# Altium integrated library wulpus_pro_shield.IntLib: 69 symbols (part 1 of 2)
Pins are listed as number, name and electrical type; pins without a type are passive.

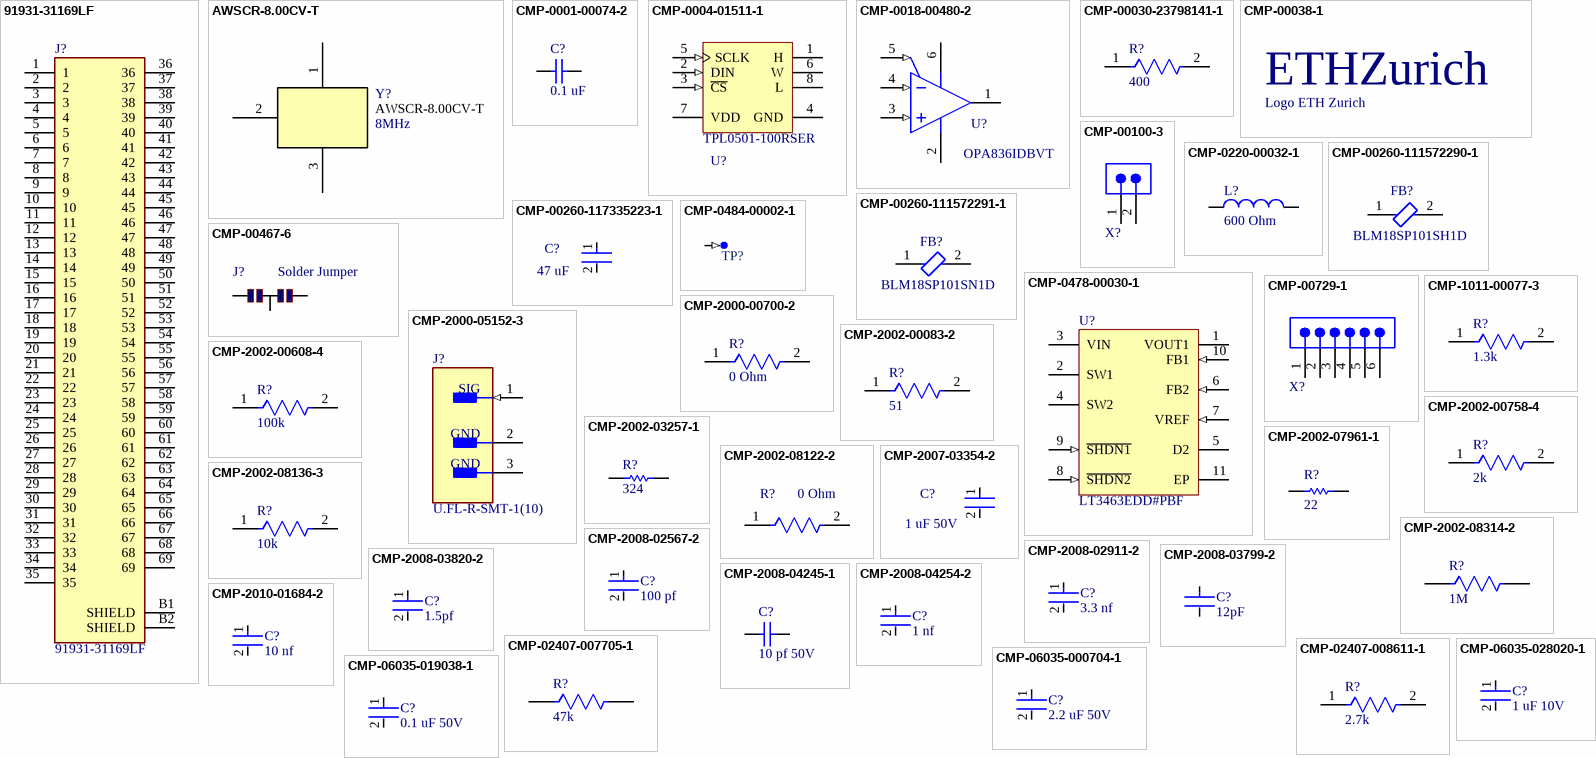
[diagram p0: symbols 91931-31169LF to CMP-06035-028020-1]

## 91931-31169LF
designator J?
Conn; Rect; Industrial; MezzanineRECP; 69Cnts; SMT; I-IndustrialSeries; Package: None; Price: None; Value: *; MP: 91931-31169LF; Availability: Unavailable
footprint FRAMETOME_91931-31169LF
pins: 1, 2, 3, 4, 5, 6, 7, 8, 9, 10, 11, 12, 13, 14, 15, 16, 17, 18, 19, 20, 21, 22, 23, 24, 25, 26, 27, 28, 29, 30, 31, 32, 33, 34, 35, 36, 37, 38, 39, 40, 41, 42, 43, 44, 45, 46, 47, 48, 49, 50, 51, 52, 53, 54, 55, 56, 57, 58, 59, 60, 61, 62, 63, 64, 65, 66, 67, 68, 69, B1 SHIELD, B2 SHIELD

## AWSCR-8.00CV-T
designator Y?  Frequency: 8MHz  (hidden comment: AWSCR-8.00CV-T)
No Description Available; Mfr_Name: Abracon; Copyright: Copyright (C) 2021 Ultra Librarian. All rights reserved.; RefDes: RefDes; Type: DEV; Manufacturer_Part_Number: AWSCR-8.00CV-T
footprint AWSCR-8.00CV-T_ABR
footprint AWSCR-8.00CV-T_ABR
pins: 1, 2, 3

## CMP-0001-00074-2
designator C?, comment 0.1 uF
C0402C104K4RACTU; Manufacturer: Kemet; Manufacturer: Murata; Manufacturer Part Number: GRM155R71C104KA88D; Manufacturer: TDK; Manufacturer Part Number: C1005X7R1C104K; Manufacturer: TAIYO YUDEN; Manufacturer Part Number: EMK105B7104KV-F; Part Number: C0402C104K4RACTU; Manufacturer: KEMET; Manufacturer Part Number: C0402C104K4RACTU
footprint CAPC1005X55X30LL05T10 (Chip Capacitor, 2-Leads, Body 1.00x0.50mm, IPC High Density)
footprint CAPC1005X55X30ML05T10 (Chip Capacitor, 2-Leads, Body 1.00x0.50mm, IPC Low Density)
footprint CAPC1005X55X30NL05T10 (Chip Capacitor, 2-Leads, Body 1.00x0.50mm, IPC Medium Density)
pins: 1, 2
1 alternate drawing of the same symbol

## CMP-0004-01511-1
designator U?, comment TPL0501-100RSER
256-Tap, 100 k, Single Channel Potentiometer with SPI Interface, -40 to 125 degC, 8-pin QFN (RSE8), Green (RoHS & no Sb/Br); Manufacturer: Texas Instruments; Settling Time(us): 3; SubFamily: Digital Potentiometer; DNL(Max)(+/-LSB): 0.5; DAC Channels: 1; PackageVersion: 4207268-2/D, 01/2011; PackageDescription: 8-Pin Plastic Quad Flatpack No-Pin, 1.5 x 1.5 mm Body, 0.5 mm Pitch; ComponentLink3Description: Package Specification; ComponentLink3URL: http://www.ti.com/litv/pdf/mpqf207b; ComponentLink2Description: Datasheet; INL(Max)(+/-LSB): 1; ComponentLink2URL: http://www.ti.com/general/docs/lit/getliterature.tsp?genericPartNumber=TPL0501-100&fileType=pdf; DatasheetVersion: SLIS136A; PackageReference: RSE8; Eco-Plan: Green (RoHS & no Sb/Br); ComponentLink1URL: http://www.ti.com/; PartNumber: TPL0501-100RSER; ComponentLink1Description: Manufacturer URL; Interface: SPI; Code_JEDEC: MO-288; Mounting Technology: Surface Mount; Manufacturer Part Number: TPL0501-100RSER
footprint TI-RSE8_V (QFN, 8-Leads, Body 1.5x1.5mm, Pitch 0.5mm)
pins: 1 H "High terminal", 2 DIN (in) "SPI Input", 3 ~{CS} (in) "SPI Chip Select. Active Low", 4 GND (power) "Ground", 5 SCLK (in) "SPI Clock", 6 W "Wiper terminal", 7 VDD (power) "Positive Supply Voltage", 8 L "Low terminal"

## CMP-0018-00480-2
designator U?, comment OPA836IDBVT
Very Low Power, Rail to Rail Out, Negative Rail In, VFB Operational Amplifier, 2.5 to 5.5 V, -40 to 125 degC, 6-pin SOT23 (DBV6), Green (RoHS & no Sb/Br); Manufacturer: Texas Instruments; Iq per channel(Max)(mA): 1; Settling Time (0.1%)(Typ)(ns): 30; Vs(Min)(V): 2.5; Vio(Max)(mV): 0.4; 3rd Harmonic(dBc): 105; BW @ Acl(MHz): 205; Vs(Max)(V): 5.5; 2nd Harmonic(dBc): 85; Sub Family: Audio Operational Amplifier, High Output Current Amplifier (>=50mA), High Speed Amplifier (>=50MHz), Low Noise Amp (<=10nV/rtHz), Low Offset Voltage Amplifier (<=500uV), Low Supply Voltage Amplifier (<=2.7V); Vn at Flatband(Typ)(nV/rtHz): 4.6; Iib(Max)(nA): 1000; Slew Rate(Typ)(V/us): 560; Io(Typ)(mA): 50; Number of Channels: 1; Eco-Plan: Green (RoHS & no Sb/Br); PartNumber: OPA836IDBVT; ComponentLink3URL: http://www.ti.com/litv/pdf/mpds026h; ComponentLink3Description: Package Specification; @ MHz: 1; ComponentLink1Description: Manufacturer URL; ComponentLink2URL: http://www.ti.com/general/docs/lit/getliterature.tsp?genericPartNumber=OPA836&fileType=pdf; Acl, min stable gain(V/V): 1; PackageVersion: 4073253-5/K, 03/2006; PackageDescription: 6-Pin Plastic Small Outline, Body 1.6 x 2.9 mm, Pitch 0.95 mm; ComponentLink1URL: http://www.ti.com/; ComponentLink2Description: Datasheet; PackageReference: DBV0006A; Code_JEDEC: MO-178; DatasheetVersion: SLOS712D; Mounting Technology: Surface Mount
footprint DBV0006A_L (SOT23, 6-Leads, Body 3.05x1.75mm, Pitch 0.95mm, IPC High Density)
footprint DBV0006A_M (SOT23, 6-Leads, Body 3.05x1.75mm, Pitch 0.95mm, IPC Low Density)
footprint DBV0006A_N (SOT23, 6-Leads, Body 3.05x1.75mm, Pitch 0.95mm, IPC Medium Density)
pins: 1 VOUT (hiz) "Amplifier output", 2 VS- (power) "Negative power supply input", 3 VIN+ (in) "Amplifier non-inverting input", 4 VIN- (in) "Amplifier inverting input", 5 ~{PD} (in) "Amplifier Power Down, low = low power mode, high = normal operation (PIN MUST BE DRIVEN)", 6 VS+ (power) "Positive power supply input"

## CMP-00030-23798141-1
designator R?, comment 400
CRCW04021R00FKEDC; NexarPartId: 23798141; Manufacturer: Vishay; Resistance: 1Ω; Tolerance: 1%; Temperature Coefficient: 100ppm/°C; Voltage Rating: 50V; Power Rating: 63mW; Lead Free: Lead Free; Case/Package: 0402; Max Operating Temperature: 155°C; RoHS: Compliant; Height: 350µm; Schedule B: 8533210045, 8533210045; Composition: Thick Film; Min Operating Temperature: -55°C; Manufacturer Part Number: CRCW04021R00FKEDC
footprint FP-CRCW0402-C-e3-MFG (SMD Chip Resistor, 49.9 kOhm, ± 1%, 63 mW, 0402 [1005 Metric], Thick Film, General Purpose)
footprint FP-CRCW0402-C-e3-IPC_A (SMD Chip Resistor, 49.9 kOhm, ± 1%, 63 mW, 0402 [1005 Metric], Thick Film, General Purpose)
footprint FP-CRCW0402-C-e3-IPC_B (SMD Chip Resistor, 49.9 kOhm, ± 1%, 63 mW, 0402 [1005 Metric], Thick Film, General Purpose)
footprint FP-CRCW0402-C-e3-IPC_C (SMD Chip Resistor, 49.9 kOhm, ± 1%, 63 mW, 0402 [1005 Metric], Thick Film, General Purpose)
pins: 1, 2

## CMP-00038-1
designator A?, comment Logo ETH Zurich  (no BOM)
footprint eth-zurich_3mm (Logo ETH Zurich)
footprint eth-zurich_2mm (Logo ETH Zurich)
footprint eth-zurich_4mm (Logo ETH Zurich)
footprint eth-zurich_5mm (Logo ETH Zurich)
text: ETHZurich

## CMP-00100-3
designator X?, comment 68000-102HLF  (value not drawn)
2 Positions Header, Unshrouded Connector 0.100" (2.54mm) Through Hole Gold or Gold, GXT™; Manufacturer: Amphenol FCI; Number of Positions: 2; Connector Type: Male Pin; Current Rating: 3A; Gender: Male; Insulation Resistance: 5GR; Mating Post Length: 5.84mm; Max Voltage Rating (AC): 1.5kV; Packaging: Bulk; Supplier: Digikey; Supplier Part Number: 609-3500-ND; ComponentLink1Description: 68000-274228-5149165.pdf; ComponentLink1URL: https://datasheet.ciiva.com/5149/68000-274228-5149165.pdf; Pitch: 2.54mm; Manufacturer Part Number: 68000-102HLF; Number of Rows: 1; Termination: Solder; Contact Mating Length: 0.23inch; Case/Package: 100; Colour: Black; ComponentLink2Description: 68000-722084.pdf; ComponentLink2URL: https://datasheet.ciiva.com/722/68000-722084.pdf; ComponentLink3Description: 68000-10149324.pdf; ComponentLink3URL: https://datasheet.ciiva.com/10149/68000-10149324.pdf; ComponentLink4Description: 68000-16726309.pdf; ComponentLink4URL: https://datasheet.ciiva.com/16726/68000-16726309.pdf; Contact Gender: Male; Contact Material: Bronze; Contact Plating: Nickel,Gold,GXT; Depth: 2.41mm; Flammability Rating: UL94 V-0; Housing Colour: Black; Housing Material: Thermoplastic; Lead Free: Lead Free; Length: 5.08mm; Max Operating Temperature: 125°C; Min Operating Temperature: -65°C; Number of Contacts: 2; Orientation: Straight; Package Quantity: 100; Radiation Hardening: No; Termination Post Length: 2.41mm; Voltage Rating: 1.5kV; Voltage Rating (DC): 1.5kV
footprint 68000-102HLF (Terminal Assembly, 1x2 Pins, Vertical, 2.54mm Pitch, Male)
pins: 1, 2

## CMP-0220-00032-1
designator L?, comment Impedance: 600 Ohm  (hidden comment: 742792040)
SMD EMI Suppression Ferrite Bead WE-CBF, Z = 600 Ohm; Manufacturer: Wurth Elektronik; PackageVersion: 2005; ComponentLink2Description: Datasheet; PackageDescription: Chip Inductor, 2-Leads, Body 2.0 x 1.2 mm; ComponentLink1URL: http://www.we-online.com; PackageReference: SMD-0805; DatasheetVersion: Dec-2005; ComponentLink2URL: http://www.we-online.de/katalog/media/pdf/742792040.pdf; ComponentLink1Description: Manufacturer Link; Manufacturer Part Number: 742792040
footprint SMD-0805 (Chip Inductor, 2-Leads, Body 2.0x1.2x1.1 mm)
pins: 1, 2

## CMP-00260-111572290-1
designator FB?, comment BLM18SP101SH1D
BLM18SP101SH1D Ferrite Beads Multi-Layer 100Ohm 25% 100MHz 3.7A 0.022Ohm DCR 0603 Automotive T/R; NexarPartId: 111572290; Manufacturer: Murata; Series Resistance: 22mΩ; Min Operating Temperature: -55°C; Test Frequency: 100MHz; Height: 950µm; Tolerance: 25%; Schedule B: 8504500000, 8504500000; Resistance: 22mΩ; Lifecycle Status: Production; Case/Package: 0603; Max Operating Temperature: 125°C; Core Material: Ferrite; RMS Current (Irms): 3.7A; Manufacturer Part Number: BLM18SP101SH1D
footprint FP-BLM18-0_15-t0_8-MFG (Ferrite Beads Multi-Layer Power 30Ohm 10Ohm 100MHz 6A 0.008Ohm DCR 0603 Automotive T/R)
footprint FP-BLM18-0_15-t0_8-IPC_A (Ferrite Beads Multi-Layer Power 30Ohm 10Ohm 100MHz 6A 0.008Ohm DCR 0603 Automotive T/R)
footprint FP-BLM18-0_15-t0_8-IPC_B (Ferrite Beads Multi-Layer Power 30Ohm 10Ohm 100MHz 6A 0.008Ohm DCR 0603 Automotive T/R)
footprint FP-BLM18-0_15-t0_8-IPC_C (Ferrite Beads Multi-Layer Power 30Ohm 10Ohm 100MHz 6A 0.008Ohm DCR 0603 Automotive T/R)
pins: 1, 2

## CMP-00260-111572291-1
designator FB?, comment BLM18SP101SN1D
BLM18SP101SN1D Ferrite Bead, 100 Ohm, 3.7A, 0603 Rohs Compliant: Yes; NexarPartId: 111572291; Manufacturer: Murata; Test Frequency: 100MHz; Tolerance: 25%; Series Resistance: 22mΩ; Lifecycle Status: Production; Core Material: Ferrite; Height: 950µm; Min Operating Temperature: -55°C; RMS Current (Irms): 3.7A; Resistance: 22mΩ; Max Operating Temperature: 125°C; Case/Package: 0603; Manufacturer Part Number: BLM18SP101SN1D
footprint FP-BLM18-0_15-t0_8-MFG (Ferrite Beads Multi-Layer Power 30Ohm 10Ohm 100MHz 6A 0.008Ohm DCR 0603 Automotive T/R)
footprint FP-BLM18-0_15-t0_8-IPC_A (Ferrite Beads Multi-Layer Power 30Ohm 10Ohm 100MHz 6A 0.008Ohm DCR 0603 Automotive T/R)
footprint FP-BLM18-0_15-t0_8-IPC_B (Ferrite Beads Multi-Layer Power 30Ohm 10Ohm 100MHz 6A 0.008Ohm DCR 0603 Automotive T/R)
footprint FP-BLM18-0_15-t0_8-IPC_C (Ferrite Beads Multi-Layer Power 30Ohm 10Ohm 100MHz 6A 0.008Ohm DCR 0603 Automotive T/R)
pins: 1, 2

## CMP-00260-117335223-1
designator C?, comment 47 uF
GRM188R60J476ME01D; NexarPartId: 117335223; Manufacturer: Murata; Material: Ceramic; Tolerance: 20%; Voltage Rating (DC): 6.3V; Dielectric: X5R; Capacitance: 47µF; Case/Package: 0603; Width: 800µm; Min Operating Temperature: -55°C; Lifecycle Status: Production; Height: 1mm; Length: 1.6mm; Max Operating Temperature: 85°C; Voltage Rating: 6.3V; Thickness: 800µm; Manufacturer Part Number: GRM188R60J476ME01D
footprint FP-GRM188-0_2-MFG (Ceramic Capacitor, Multilayer, Ceramic, 6.3V, 20% +Tol, 20% -Tol, X5R, 15% TC, 47uF, Surface Mount, 0603)
footprint FP-GRM188-0_2-IPC_A (Ceramic Capacitor, Multilayer, Ceramic, 6.3V, 20% +Tol, 20% -Tol, X5R, 15% TC, 47uF, Surface Mount, 0603)
footprint FP-GRM188-0_2-IPC_B (Ceramic Capacitor, Multilayer, Ceramic, 6.3V, 20% +Tol, 20% -Tol, X5R, 15% TC, 47uF, Surface Mount, 0603)
footprint FP-GRM188-0_2-IPC_C (Ceramic Capacitor, Multilayer, Ceramic, 6.3V, 20% +Tol, 20% -Tol, X5R, 15% TC, 47uF, Surface Mount, 0603)
pins: 1, 2

## CMP-00467-6
designator J?, comment Solder Jumper  (no BOM)
Solder Jumper 3 Pads; Technology: SMT
footprint Jumper 3 pins (Jumper 3 pins 0603x2)
footprint Jumper 3 pins_2 (Jumper 3 pins)
footprint Jumper 3 pins - 0201 (Jumper 3 pins 0201x2)
pins: 1, 2, 3

## CMP-0478-00030-1
designator U?, comment LT3463EDD#PBF
Dual Micropower DC/DC Converters with Schottky Diodes, 2.4 to 15 V Vin, 10-pin SON (DD-10), -40 to 85 degC, Pb-Free; PartNumber: LT3463AEDD#PBF; Manufacturer: Linear Technology; Manufacturer: Analog Devices; Vin Max(V): 15; Number of Outputs: 2; Vin Min(V): 2.4; ComponentLink3URL: http://cds.linear.com/docs/en/packaging/DFN_10_05-08-1699.pdf; ComponentLink2URL: http://cds.linear.com/docs/en/datasheet/3463f.pdf; PackageReference: DD-10; PackageVersion: Rev. C, 06/2010; ComponentLink1URL: http://www.linear.com/; RoHS: TRUE; ComponentLink3Description: Package Specification; Mounting Technology: Surface Mount; Code_JEDEC: MO-229; ComponentLink2Description: Datasheet; PackageDescription: 10-Pin Plastic DFN, Body 3 x 3 mm, Pitch 0.5 mm; ComponentLink1Description: Manufacturer URL; Manufacturer Part Number: LT3463AEDD#PBF
footprint LT-DD-10_V (SON, 10-Leads, Body 3x3mm, Pitch 0.5mm, Thermal Pad 2.38x1.65mm)
pins: 1 VOUT1 (power) "Output Voltage Switcher 1. This is the cathode of an internal Schottky diode whose anode is connected to the SW1 pin.", 2 SW1 "Switch Pin for Switcher 1. This is the collector of the internal NPN switch. Minimize the metal trace area connected to this pin to minimize EMI.", 3 VIN (power) "Input Supply Pin. Bypass this pin with a capacitor as close to the device as possible.", 4 SW2 "Switch Pin for Switcher 2. This is the collector of the internal NPN switch. Minimize the metal trace area connected to this pin to minimize EMI.", 5 D2 "Diode for Switcher 2. This is the anode of an internal Schottky diode whose cathode connected to the GND pin.", 6 FB2 (in) "Feedback Pin for Switcher 2. Set the output voltage by selecting values for R3 and R4.", 7 VREF (in) "Voltage Reference Pin (1.25V). This pin is used along with FB2 to set the negative output voltage for Switcher 2.", 8 ~{SHDN2} (in) "Shutdown Pin for Switcher 2. Pull this pin above 1.5V to enable Switcher 2. Pull below 0.3V to turn it off. Do not leave this pin floating.", 9 ~{SHDN1} (in) "Shutdown Pin for Switcher 1. Pull this pin above 1.5V to enable Switcher 1. Pull below 0.3V to turn it off. Do not leave this pin floating.", 10 FB1 (in) "Feedback Pin for Switcher 1. Set the output voltage by selecting values for R1 and R2.", 11 EP (power) "Exposed Pad. Solder this exposed pad directly to the local ground plane. This pad must be electrically connected for proper operation."

## CMP-0484-00002-1
designator TP?, comment TP-SM-C-100  (value not drawn)  (no BOM)
Test Point, Surface Mount, Circular, Pad Diameter 1 mm
footprint TP-SM-C-100 (Test Point, Surface Mounting, Circular, Pad Diameter 1mm)
pins: 1 (in)

## CMP-00729-1
designator X?, comment 68000-106HLF  (value not drawn)
6 Positions Header, Unshrouded Connector 0.100" (2.54mm) Through Hole Gold or Gold, GXT™; Current Rating: 3A; Voltage Rating: 1.5kV; Number of Positions: 6; Insulation Resistance: 5GR; Gender: Male; Connector Type: Male Pin; Mating Post Length: 5.84mm; Mount: Through Hole; Contact Plating: Nickel, Gold, GXT; Contact Material: Bronze; Colour: Black; Housing Colour: Black; Housing Material: Thermoplastic; Min Operating Temperature: -65°C; Max Operating Temperature: 125°C; Contact Gender: Male; Package Quantity: 100; Number of Rows: 1; Packaging: Bulk; Termination: Solder; Max Voltage Rating (AC): 1.5kV; Number of Contacts: 6; Orientation: Straight; Length: 15.24mm; Pitch: 2.54mm; Termination Post Length: 2.41mm; Contact Mating Length: 0.23inch; Depth: 2.41mm; Radiation Hardening: No; REACH SVHC: No SVHC; Flammability Rating: UL94 V-0
footprint 68000-106HLF (Terminal Assembly, 1x6 Pin, Vertical, 2.54mm Pitch, Male, TH)
pins: 1, 2, 3, 4, 5, 6

## CMP-1011-00077-3
designator R?, comment 1.3k
CRCW04021K30JNED; Manufacturer: Vishay; Manufacturer: Bourns; Manufacturer Part Number: CR0402-JW-132GLF; Manufacturer Part Number: CRCW04021K30JNTD; Manufacturer: Panasonic; Manufacturer Part Number: ERJ-2GEJ132X; Manufacturer: Yageo Group; Manufacturer Part Number: RC0402JR-071K3L; Tolerance: 5%; Voltage Rating (DC): 50V; Resistance: 1.3kR; Power Rating: 63mW; Temperature Coefficient: 200ppm/°C; Height: 0.016inch; Military Standard: Not; Max Operating Temperature: 155°C; Width: 0.5mm; Features: Automotive AEC-Q200; Depth: 0.5mm; Weight: 2.3E-05oz; Contact Plating: Tin; Case Code (Imperial): 0402; Min Operating Temperature: -55°C; Voltage Rating: 50V; Package Quantity: 1; Lead Free: Lead Free; Case/Package: 0402; Packaging: Tape and Reel; Radiation Hardening: No; Length: 1mm; Case Code (Metric): 1005; Number of Terminations: 2; Max Power Dissipation: 63mW; Composition: Thick Film; Manufacturer Part Number: CRCW04021K30JNED
footprint FP-CRCW0402-e3-IPC_B
footprint FP-CRCW0402-e3-MFG
footprint FP-CRCW0402-e3-IPC_C
footprint FP-CRCW0402-e3-IPC_A
pins: 1, 2

## CMP-2000-00700-2
designator R?, comment 0 Ohm
ERJ-3GEY0R00V; Manufacturer: Panasonic; Tolerance: 5%; Automotive Grade: Grade 0; Voltage Rating: 75V; Value: 0Ω; Temperature Coefficient: -100/+600ppm/°C; Power Rating: 0.1W; Mouser Description: Resistor, Chip Thick Film, 0 Ohm, 0.1w, Resistor, Chip Thick Film, 0 Ohm, 0.1w, 5%; Manufacturer Part Number: ERJ-3GEY0R00V; Ipc Land Pattern Name: RESC16080X45; Category: Res; Package: 0603; Temperature: -55°C to +155°C; Temperature Range Low: -55°C; Series: ERJ; Resistance: 0Ω; RoHS: TRUE; Composition: Thick Film; Octopart: https://octopart.com/erj-3gey0r00v-panasonic-55389238; Device Class L1: Passive Components; Footprint Url: https://industrial.panasonic.com/cdbs/www-data/pdf/RDA0000/DMA0000COL17.pdf; ComponentLink2Description: Datasheet; Device Class L2: Resistors; Temperature Range High: +155°C; Digikey Description: RES SMD 0 OHM JUMPER 1/10W 0603; Lead Free: Yes; Device Class L3: Chip SMD Resistors; Height: 0.55mm; ComponentLink2URL: https://industrial.panasonic.com/cdbs/www-data/pdf/RDA0000/AOA0000C301.pdf; Automotive: Yes
footprint FP-ERJ-3GEY0R00V-MFG
footprint FP-ERJ-3GEY0R00V-IPC_C
footprint FP-ERJ-3GEY0R00V-IPC_B
footprint FP-ERJ-3GEY0R00V-IPC_A
pins: 1, 2

## CMP-2000-05152-3
designator J?, comment U.FL-R-SMT-1(10)
CONN U.FL RCPT STR 50 OHM SMD; Manufacturer: HIROSE ELECTRIC; Max Frequency: 6GHz; Connector Type: Coaxial; Body Plating: Silver; Body Material: Bronze; Impedance: 50R; Dielectric Material: Polymer; Insulation Resistance: 500MR; Gender: Male; Packaging: Cut Tape; Length: 3mm; Package Quantity: 2500; Termination: Solder; Lead Free: Lead Free; Series: U.FL; Min Operating Temperature: -40°C; Fastening Type: Snap; Contact Material: Brass; Orientation: Straight; Wire/Cable Type: Coaxial; Frequency: 6GHz; Contact Plating: Gold; Depth: 3.1mm; Weight: 0.001764oz; Max Operating Temperature: 90°C; Radiation Hardening: No; REACH SVHC: No SVHC; Mount: Surface Mount; Housing Color: Beige; Manufacturer Part Number: U.FL-R-SMT-1(10)
footprint FP-U_FL-R-SMT-1_10-MFG
pins: 1 SIG (in), 2 GND (power), 3 GND (power)

## CMP-2002-00083-2
designator R?, comment 51
CRCW040251R0JNED; Manufacturer: Vishay; Max Power Dissipation: 63mW; Temperature Coefficient: 200ppm/°C; Tolerance: 5%; Resistance: 51R; Voltage Rating: 50V; Depth: 0.5mm; Mount: Surface Mount; Number of Terminations: 2; Height: 0.35mm; Length: 1mm; Case Code (Metric): 1005; Radiation Hardening: No; Min Operating Temperature: -55°C; Termination: SMD/SMT; Military Standard: Not; Lead Free: Lead Free; Power Rating: 63mW; Max Operating Temperature: 155°C; Width: 0.5mm; Features: Automotive AEC-Q200; Weight: 2.3E-05oz; Case Code (Imperial): 0402; Package Quantity: 1; Number of Pins: 2; Case/Package: 0402; Contact Plating: Tin; Voltage Rating (DC): 50V; Packaging: Tape and Reel; Composition: Thick Film; Manufacturer Part Number: CRCW040251R0JNED
footprint FP-CRCW0402-e3-IPC_C
footprint FP-CRCW0402-e3-IPC_B
footprint FP-CRCW0402-e3-MFG
footprint FP-CRCW0402-e3-IPC_A
pins: 1, 2

## CMP-2002-00608-4
designator R?, comment 100k
ERJ-2RKF1003X; Manufacturer: Panasonic; Resistance: 100kR; Voltage Rating (DC): 50V; Tolerance: 1%; Power Rating: 100mW; Temperature Coefficient: 100ppm/°C; Case/Package: 0402; Length: 1mm; Package Quantity: 1; Radiation Hardening: No; Case Code (Metric): 1005; Contact Plating: Tin; Mount: Surface Mount; Depth: 0.5mm; Max Operating Temperature: 155°C; Lead Free: Lead Free; Width: 0.5mm; Composition: Thick Film; Case Code (Imperial): 0402; Termination: SMD/SMT; Number of Pins: 2; Height: 0.35mm; Voltage Rating: 50V; Military Standard: Not; REACH SVHC: No SVHC; Packaging: Tape and Reel; Min Operating Temperature: -55°C; Max Power Dissipation: 100mW; Features: Automotive AEC-Q200; Number of Terminations: 2; Manufacturer Part Number: ERJ-2RKF1003X
footprint FP-ERJ2RK-IPC_C
footprint FP-ERJ2RK-IPC_A
footprint FP-ERJ2RK-IPC_B
footprint FP-ERJ2RK-MFG
pins: 1, 2

## CMP-2002-00758-4
designator R?, comment 2k
ERJ-2RKF2001X; Manufacturer: Panasonic; Temperature Coefficient: 100ppm/°C; Max Power Dissipation: 100mW; Working Voltage: 50V; Resistance: 2kR; Tolerance: 1%; Number of Terminations: 2; Technology: THICK FILM; Packaging: Tape and Reel; RoHS Compliant: Yes; Min Operating Temperature: -55°C; Length: 1mm; Construction: Rectangular; Features: Automotive AEC-Q200; Contact Plating: Tin; Lead Free: Lead Free; Series: ERJ; Power Rating: 100mW; REACH SVHC: No SVHC; Resistor Type: Thick Film; Max Operating Temperature: 155°C; Package Quantity: 10000; Height: 0.35mm; Case/Package: 0402; Mount: Surface Mount; Termination: SMD/SMT; Resistance Tolerance: 1%; Depth: 0.5mm; Voltage Rating (DC): 50V; Voltage Rating: 50V; Case Code (Imperial): 0402; Military Standard: Not; Width: 0.02inch; Radiation Hardening: No; Case Code (Metric): 1005; Manufacturer Part Number: ERJ-2RKF2001X
footprint FP-ERJ2RK-MFG
footprint FP-ERJ2RK-IPC_B
footprint FP-ERJ2RK-IPC_A
footprint FP-ERJ2RK-IPC_C
pins: 1, 2

## CMP-2002-03257-1
designator R?, comment Resistance: 324  (hidden comment: CPF0402B324RE1)
Manufacturer: TE Connectivity / AMP; Manufacturer: TE Connectivity; Part Number: CPF0402B324RE1; Manufacturer Part Number: CPF0402B324RE1
footprint RESC1005X35X20ML05T10 (Chip Resistor, 2-Leads, Body 1.00x0.50mm, IPC Low Density)
footprint RESC1005X35X20NL05T10 (Chip Resistor, 2-Leads, Body 1.00x0.50mm, IPC Medium Density)
footprint RESC1005X35X20LL05T10 (Chip Resistor, 2-Leads, Body 1.00x0.50mm, IPC High Density)
pins: 1, 2
1 alternate drawing of the same symbol

## CMP-2002-07961-1
designator R?, comment Resistance: 22  (hidden comment: RC0402JR-0722RL)
Manufacturer: Yageo / Phycomp; Manufacturer: Yageo Group; Part Number: RC0402JR-0722RL; Manufacturer Part Number: RC0402JR-0722RL
footprint RESC1005X40X25NL05T10 (Chip Resistor, 2-Leads, Body 1.00x0.50mm, IPC Medium Density)
footprint RESC1005X40X25LL05T10 (Chip Resistor, 2-Leads, Body 1.00x0.50mm, IPC High Density)
footprint RESC1005X40X25ML05T10 (Chip Resistor, 2-Leads, Body 1.00x0.50mm, IPC Low Density)
pins: 1, 2
1 alternate drawing of the same symbol

## CMP-2002-08122-2
designator R?, comment 0 Ohm
CRCW04020000Z0ED; Manufacturer: Vishay; Tolerance: 5%; Max Power Dissipation: 63mW; Voltage Rating: 50V; Temperature Coefficient: 100ppm/°C; Resistance: 0mR; Contact Plating: Tin; Height: 0.35mm; Radiation Hardening: No; Features: Automotive AEC-Q200; Composition: Thick Film; Width: 0.5mm; Weight: 2.3E-05oz; Termination: SMD/SMT; Packaging: Tape and Reel; Mount: Surface Mount; Case Code (Metric): 1005; Military Standard: Not; Min Operating Temperature: -55°C; Number of Terminations: 2; Package Quantity: 1; Case Code (Imperial): 0402; Depth: 0.5mm; Max Operating Temperature: 155°C; Case/Package: 0402; Power Rating: 63mW; Lead Free: Lead Free; Voltage Rating (DC): 50V; Length: 1mm; Manufacturer Part Number: CRCW04020000Z0ED
footprint FP-CRCW0402-e3-IPC_C
footprint FP-CRCW0402-e3-IPC_A
footprint FP-CRCW0402-e3-MFG
footprint FP-CRCW0402-e3-IPC_B
pins: 1, 2

## CMP-2002-08136-3
designator R?, comment 10k
CRCW040210K0JNED; Manufacturer: Vishay; Temperature Coefficient: 200ppm/°C; Voltage Rating: 50V; Power Rating: 63mW; Resistance: 10kR; Tolerance: 5%; Military Standard: Not; Packaging: Tape and Reel; Case Code (Imperial): 0402; Min Operating Temperature: -55°C; Case Code (Metric): 1005; Case/Package: 0402; Termination: SMD/SMT; Composition: Thick Film; Depth: 0.5mm; Number of Terminations: 2; Contact Plating: Tin; Height: 0.016inch; Width: 0.5mm; Max Operating Temperature: 155°C; Features: Automotive AEC-Q200; Length: 1mm; Radiation Hardening: No; Max Power Dissipation: 63mW; Mount: Surface Mount; Package Quantity: 1; Weight: 2.3E-05oz; Manufacturer Part Number: CRCW040210K0JNED
footprint FP-CRCW0402-e3-IPC_B
footprint FP-CRCW0402-e3-IPC_C
footprint FP-CRCW0402-e3-IPC_A
footprint FP-CRCW0402-e3-MFG
pins: 1, 2

## CMP-2002-08314-2
designator R?, comment Resistance: 1M  (hidden comment: CRCW04021M00FKED)
RES Thick Film, 1MΩ, 1%, 0.063W, 100ppm/°C, 0402; Manufacturer: Vishay; Power Rating: 63mW; Voltage Rating (DC): 50V; Min Operating Temperature: -55°C; Lead Free: Lead Free; Case Code (Imperial): 0402; Packaging: Tape and Reel; Case Code (Metric): 1005; Tolerance: 1%; Number of Terminations: 2; Features: Automotive AEC-Q200; Number of Pins: 2; Max Power Dissipation: 63mW; Height: 0.35mm; Weight: 2.3E-05oz; Package Quantity: 10; Contact Plating: Tin; Temperature Coefficient: 100ppm/°C; Radiation Hardening: No; Length: 1mm; Termination: SMD/SMT; Depth: 0.5mm; Case/Package: 0402; Voltage Rating: 50V; Composition: Thick Film; Width: 0.02inch; Max Operating Temperature: 155°C; Military Standard: Not; Manufacturer Part Number: CRCW04021M00FKED
footprint FP-CRCW0402-e3-MFG
footprint FP-CRCW0402-e3-IPC_C
footprint FP-CRCW0402-e3-IPC_B
footprint FP-CRCW0402-e3-IPC_A
pins: 1, 2

## CMP-2007-03354-2
designator C?, comment 1 uF 50V
GCM21BR71H105KA03L; Manufacturer: Murata; Dielectric: X7R; Capacitance: 1uF; Tolerance: 10%; Min Operating Temperature: -55°C; Length: 2mm; Package Quantity: 3000; Case Code (Metric): 2012; Max Operating Temperature: 125°C; Termination: SMD/SMT; Thickness: 0.055inch; Ratings: AEC-Q200; Voltage Rating (DC): 50V; Voltage Rating: 50V; Lead Free: Lead Free; Width: 0.049inch; Mount: Surface Mount; Case/Package: 0805; Case Code (Imperial): 0805; Radiation Hardening: No; Height: 1.25mm; Depth: 1.2mm; Packaging: Tape and Reel; Weight: 0.000335oz; Manufacturer Part Number: GCM21BR71H105KA03L
footprint FP-GCM21B-0_15-IPC_C
footprint FP-GCM21B-0_15-IPC_B
footprint FP-GCM21B-0_15-IPC_A
footprint FP-GCM21B-0_15-MFG
pins: 1, 2

## CMP-2008-02567-2
designator C?, comment 100 pf
04025A101FAT2A; Manufacturer: Kyocera AVX; Dielectric: C0G; Capacitance: 100pF; Voltage: 50V; Tolerance: 1%; Dielectric Material: Ceramic; Packaging: Tape and Reel; Thickness: 0.022inch; Termination: SMD/SMT; Case Code (Imperial): 0402; Case Code (Metric): 1005; Width: 0.02inch; Radiation Hardening: No; Min Operating Temperature: -55°C; Depth: 0.5mm; Number of Pins: 2; Height: 0.56mm; REACH SVHC: No SVHC; Case/Package: 0402; Voltage Rating: 50V; Length: 1mm; Mount: Surface Mount; Max Operating Temperature: 125°C; Package Quantity: 1; Lead Free: Lead Free; Voltage Rating (DC): 50V; Manufacturer Part Number: 04025A101FAT2A
footprint FP-0402-L_1_0_1-W_0_5_0_1-MFG
footprint FP-0402-L_1_0_1-W_0_5_0_1-IPC_A
footprint FP-0402-L_1_0_1-W_0_5_0_1-IPC_C
footprint FP-0402-L_1_0_1-W_0_5_0_1-IPC_B
pins: 1, 2

## CMP-2008-02911-2
designator C?, comment 3.3 nf
04025C332JAT2A; Manufacturer: KYOCERA AVX; Dielectric: X7R; Capacitance: 3.3nF; Voltage Rating: 50V; Tolerance: 5%; Dissipation Factor: 2.5%; Length: 1mm; Number of Pins: 2; Width: 0.02inch; Case Code (Imperial): 0402; Contact Plating: Tin; Packaging: Tape and Reel; Height: 0.56mm; Case/Package: 0402; Termination: SMD/SMT; Construction: Flat; Max Operating Temperature: 125°C; Min Operating Temperature: -55°C; RoHS Compliant: Yes; Case Code (Metric): 1005; Mount: Surface Mount; Package Quantity: 1; Series: -; REACH SVHC: No SVHC; Lead Free: Lead Free; Voltage Rating (DC): 50V; Radiation Hardening: No; Depth: 0.5mm; Thickness: 0.022inch; Manufacturer Part Number: 04025C332JAT2A
footprint FP-0402-L_1_0_1-W_0_5_0_1-IPC_C
footprint FP-0402-L_1_0_1-W_0_5_0_1-MFG
footprint FP-0402-L_1_0_1-W_0_5_0_1-IPC_B
footprint FP-0402-L_1_0_1-W_0_5_0_1-IPC_A
pins: 1, 2

## CMP-2008-03799-2
designator C?, comment Capacitance: 12pF  (hidden comment: GJM1555C1H120GB01D)
Multi-Layer Ceramic Capacitor 12pF C0G  ±2% 0402 Paper T/R; Manufacturer: Murata; Voltage Rating: 50V; Tolerance: 2%; Length: 1mm; Width: 0.5mm; Thickness: 0.022inch; Package Quantity: 10000; Lead Free: Lead Free; Mount: Surface Mount; Voltage Rating (DC): 50V; Max Operating Temperature: 125°C; Termination: SMD/SMT; Depth: 0.5mm; Min Operating Temperature: -55°C; Height: 0.5mm; Case Code (Imperial): 0402; Case/Package: 0402; Case Code (Metric): 1005; Dielectric: C0G; Packaging: Tape and Reel; Radiation Hardening: No; Manufacturer Part Number: GJM1555C1H120GB01D
footprint FP-GJM155-0_05-IPC_A
footprint FP-GJM155-0_05-MFG
footprint FP-GJM155-0_05-IPC_C
footprint FP-GJM155-0_05-IPC_B
pins: 1, 2

## CMP-2008-03820-2
designator C?, comment 1.5pf
GJM1555C1H1R5BB01D; Manufacturer: Murata; Temperature Coefficient: 30ppm/°C; Voltage Rating: 50V; Dielectric: C0G; Depth: 0.5mm; Case Code (Imperial): 0402; Package Quantity: 10000; Length: 1mm; Number of Pins: 2; Max Operating Temperature: 125°C; Mount: Surface Mount; Construction: Flat; Thickness: 0.022inch; Series: GJM; Packaging: Tape and Reel; Radiation Hardening: No; REACH SVHC: No SVHC; Case/Package: 0402; Lead Free: Lead Free; Voltage Rating (DC): 50V; Min Operating Temperature: -55°C; Termination: SMD/SMT; Width: 0.5mm; Capacitance: 1.5pF; Lead Pitch: 0.3mm; Case Code (Metric): 1005; Voltage: 50V; Height: 0.5mm; Manufacturer Part Number: GJM1555C1H1R5BB01D
footprint FP-GJM155-0_05-IPC_C
footprint FP-GJM155-0_05-MFG
footprint FP-GJM155-0_05-IPC_B
footprint FP-GJM155-0_05-IPC_A
pins: 1, 2

## CMP-2008-04245-1
designator C?, comment 10 pf 50V
GRM1555C1H100JA01D; Manufacturer: Murata; Part Number: GRM1555C1H100JA01D; Manufacturer Part Number: GRM1555C1H100JA01D
footprint CAPC1005X55X25LL05T10 (Chip Capacitor, 2-Leads, Body 1.00x0.50mm, IPC High Density)
footprint CAPC1005X55X25ML05T10 (Chip Capacitor, 2-Leads, Body 1.00x0.50mm, IPC Low Density)
footprint CAPC1005X55X25NL05T10 (Chip Capacitor, 2-Leads, Body 1.00x0.50mm, IPC Medium Density)
pins: 1, 2
1 alternate drawing of the same symbol

## CMP-2008-04254-2
designator C?, comment 1 nf
GRM1555C1H102JA01D; Manufacturer: Murata; Tolerance: 5%; Temperature Coefficient: 30ppm/°C; Insulation Resistance: 10GR; Material: Ceramic; Voltage Rating: 50V; Dielectric: C0G; Capacitance: 1nF; Packaging: Tape and Reel; Lead Free: Lead Free; Thickness: 0.022inch; Termination: SMD/SMT; Max Operating Temperature: 125°C; Height: 0.5mm; Package Quantity: 1; Radiation Hardening: No; Case Code (Metric): 1005; Number of Pins: 2; Mount: Surface Mount; Voltage: 50V; Case/Package: 0402; Min Operating Temperature: -55°C; Dielectric Material: Ceramic; Width: 0.5mm; Depth: 0.5mm; Case Code (Imperial): 0402; REACH SVHC: No SVHC; Voltage Rating (DC): 50V; Length: 1mm; Manufacturer Part Number: GRM1555C1H102JA01D
footprint FP-GRM155-0_05-IPC_B
footprint FP-GRM155-0_05-IPC_A
footprint FP-GRM155-0_05-MFG
footprint FP-GRM155-0_05-IPC_C
pins: 1, 2

## CMP-2010-01684-2
designator C?, comment 10 nf
GRM033R71A103KA01D; Manufacturer: Murata; Voltage: 10V; Capacitance: 10nF; Material: Ceramic; Dielectric: X7R; Tolerance: 10%; Package Quantity: 1; Width: 0.012inch; Mount: Surface Mount; Voltage Rating (DC): 10V; Voltage Rating: 10V; Length: 0.6mm; Packaging: Tape and Reel; REACH SVHC: No SVHC; Termination: SMD/SMT; Case/Package: 0201; Radiation Hardening: No; Height: 0.3mm; Case Code (Imperial): 0201; Min Operating Temperature: -55°C; Lead Free: Lead Free; Thickness: 0.013inch; Depth: 0.3mm; Case Code (Metric): 0603; Max Operating Temperature: 125°C; Manufacturer Part Number: GRM033R71A103KA01D
footprint FP-GRM033-0_03-IPC_B
footprint FP-GRM033-0_03-MFG
footprint FP-GRM033-0_03-IPC_C
footprint FP-GRM033-0_03-IPC_A
pins: 1, 2

## CMP-02407-007705-1
designator R?, comment Resistance: 47k  (hidden comment: CRCW040247K0FKED)
RES Thick Film, 47kΩ, 1%, 0.063W, 100ppm/°C, 0402; Manufacturer: Vishay; Voltage Rating (DC): 50V; Power Rating: 63mW; Temperature Coefficient: 100ppm/°C; Mount: Surface Mount; Radiation Hardening: No; Case Code (Imperial): 0402; Case Code (Metric): 1005; Contact Plating: Tin; Case/Package: 0402; Package Quantity: 10000; Width: 0.5mm; Lead Free: Lead Free; Packaging: Tape and Reel; Length: 1mm; Max Operating Temperature: 155°C; Min Operating Temperature: -55°C; Tolerance: 1%; Weight: 2.3E-05oz; Working Voltage: 50V; Voltage Rating: 50V; Height: 0.35mm; Depth: 0.5mm; Composition: Thick Film; Number of Terminations: 2; Termination: SMD/SMT; Military Standard: Not; Manufacturer Part Number: CRCW040247K0FKED
footprint FP-CRCW0402-e3-IPC_C
footprint FP-CRCW0402-e3-IPC_A
footprint FP-CRCW0402-e3-MFG
footprint FP-CRCW0402-e3-IPC_B
pins: 1, 2

## CMP-02407-008611-1
designator R?, comment 2.7k
MCS04020C2701FE000; Manufacturer: Vishay; Resistance: 2.7kR; Tolerance: 1%; Temperature Coefficient: 50ppm/°C; Max Power Dissipation: 100mW; Number of Terminations: 2; Packaging: Tape and Reel; Package Quantity: 10000; Height: 0.015inch; Length: 0.039inch; Max Operating Temperature: 125°C; Military Standard: Not; Min Operating Temperature: -55°C; Composition: Thin Film; Width: 0.02inch; Depth: 0.5mm; Contact Plating: Tin; Radiation Hardening: No; Case/Package: 0402; Lead Free: Lead Free; Manufacturer Part Number: MCS04020C2701FE000
footprint FP-MCS0402-IPC_B
footprint FP-MCS0402-IPC_C
footprint FP-MCS0402-MFG
footprint FP-MCS0402-IPC_A
pins: 1, 2

## CMP-06035-000704-1
designator C?, comment 2.2 uF 50V
GRM188R61H225ME11D; Manufacturer: Murata; Capacitance: 2.2uF; Dielectric: X5R; Tolerance: 20%; Weight: 0.000222oz; Min Operating Temperature: -55°C; Voltage Rating (DC): 50V; Case Code (Imperial): 0603; Thickness: 0.039inch; Height: 0.8mm; Termination: SMD/SMT; Resistor Type: Ceramic; Case/Package: 0603; Package Quantity: 4000; Length: 0.063inch; Lead Free: Lead Free; Max Operating Temperature: 85°C; Packaging: Tape and Reel; Width: 0.031inch; Voltage Rating: 50V; Mount: Surface Mount; Case Code (Metric): 1608; Manufacturer Part Number: GRM188R61H225ME11D
footprint FP-GRM188-0_2-IPC_B
footprint FP-GRM188-0_2-IPC_C
footprint FP-GRM188-0_2-IPC_A
footprint FP-GRM188-0_2-MFG
pins: 1, 2

## CMP-06035-019038-1
designator C?, comment 0.1 uF 50V
GRM155C71H104KE19D; Manufacturer: Murata; Dielectric: X7S; Tolerance: 10%; Capacitance: 100nF; Voltage Rating (DC): 50V; Width: 500um; Thickness: 500um; Length: 1mm; Manufacturer Part Number: GRM155C71H104KE19D
footprint FP-GRM155-0_05-MFG
footprint FP-GRM155-0_05-IPC_C
footprint FP-GRM155-0_05-IPC_B
footprint FP-GRM155-0_05-IPC_A
pins: 1, 2

## CMP-06035-028020-1
designator C?, comment 1 uF 10V
GRM155Z71A105KE01D; Manufacturer: Murata; Manufacturer Part Number: GRM155Z71A105KE01D
footprint FP-GRM155-0_1-IPC_C
footprint FP-GRM155-0_1-MFG
footprint FP-GRM155-0_1-IPC_B
footprint FP-GRM155-0_1-IPC_A
pins: 1, 2

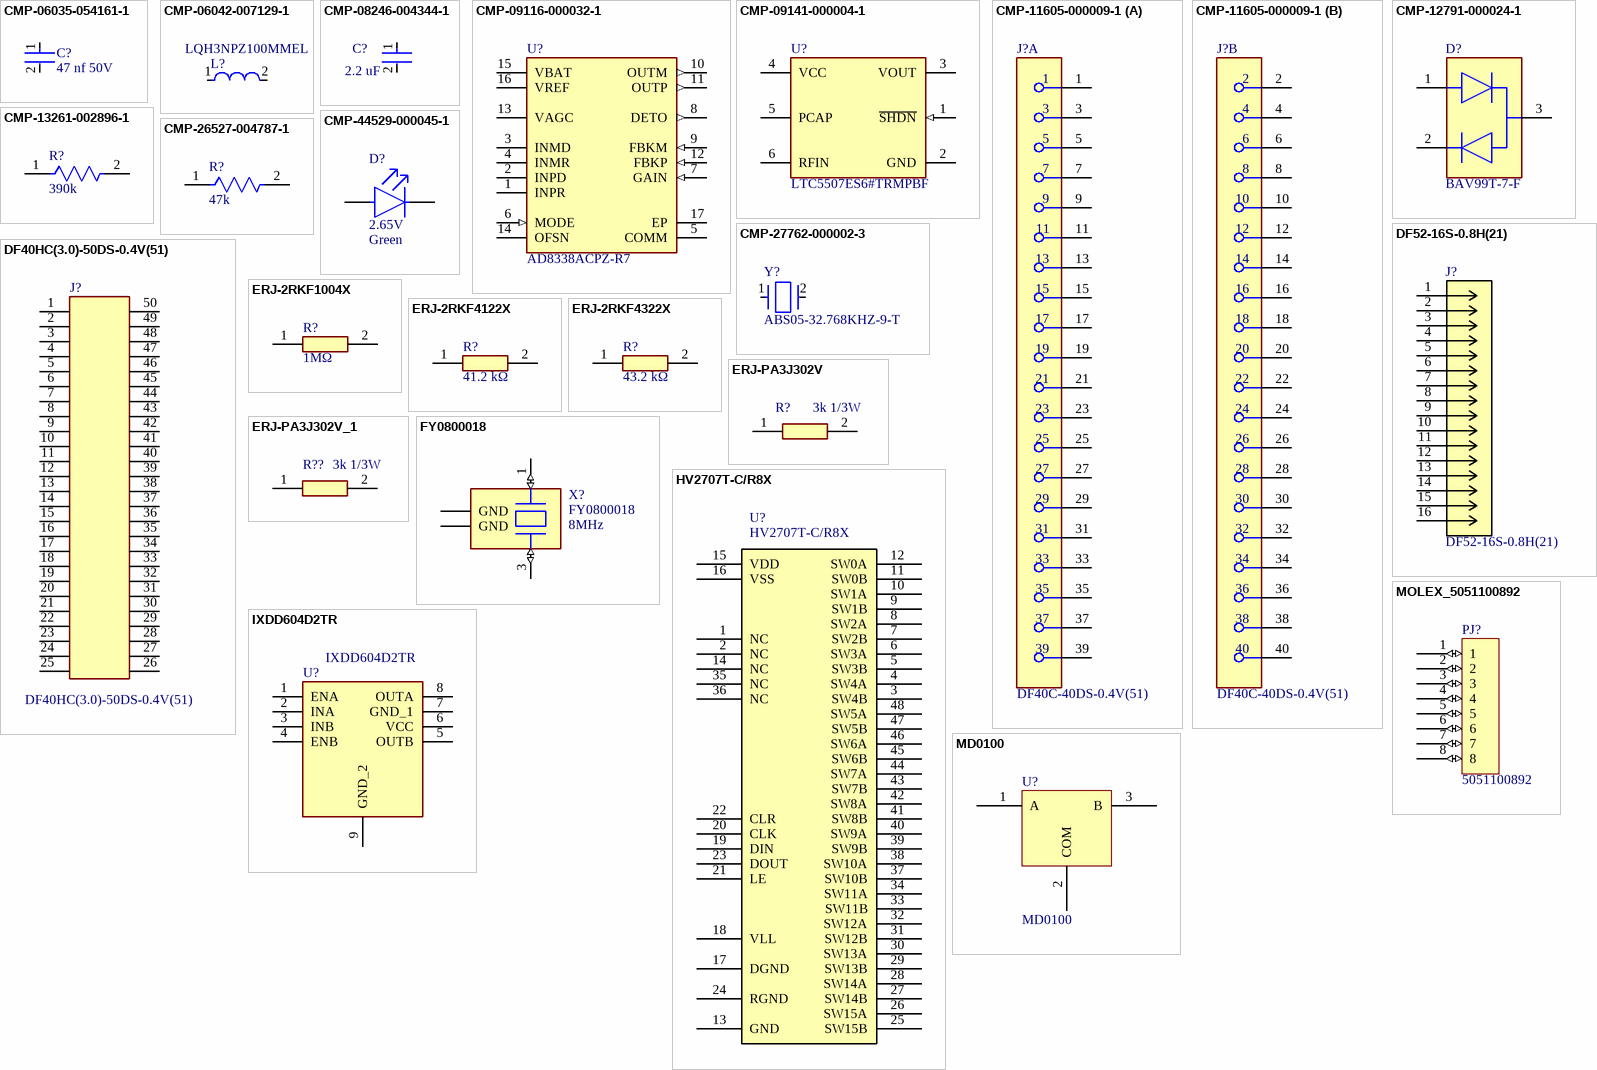
[diagram p1: symbols CMP-06035-054161-1 to MOLEX_5051100892]

## CMP-06035-054161-1
designator C?, comment 47 nf 50V
GRM155R71H473ME14D; Manufacturer: Murata; Tolerance: 20%; Capacitance: 47nF; Dielectric: X7R; Termination: SMD/SMT; Package Quantity: 10000; Min Operating Temperature: -55°C; Height: 0.5mm; Case Code (Imperial): 0402; Resistor Type: Ceramic; Case Code (Metric): 1005; Voltage Rating (DC): 50V; Mount: Surface Mount; Case/Package: 0402; Packaging: Tape and Reel; Thickness: 0.022inch; Max Operating Temperature: 125°C; Weight: 0.000212oz; Width: 0.5mm; Length: 0.039inch; Voltage Rating: 50V; Manufacturer Part Number: GRM155R71H473ME14D
footprint FP-GRM155-0_05-IPC_C
footprint FP-GRM155-0_05-IPC_A
footprint FP-GRM155-0_05-MFG
footprint FP-GRM155-0_05-IPC_B
pins: 1, 2

## CMP-06042-007129-1
designator L?, comment LQH3NPZ100MMEL
Wire Wound Ferrite Inductor for Power Lines For Automotive 10μH ±20% 0.228Ω 1280mA 1212; Manufacturer: Murata; Self Resonant Frequency: 20MHz; Inductance: 10uH; Test Frequency: 1MHz; Shielding: Shielded; Saturation Current: 810mA; DC Resistance (DCR): 228mR; Current Rating: 1.28A; Case Code (Imperial): 1212; Case Code (Metric): 3030; Core Material: Ferrite; Resistor Type: Wirewound; Mount: Surface Mount; Ratings: AEC-Q200; Packaging: Cut Tape; Max Operating Temperature: 85°C; Tolerance: 20%; Min Operating Temperature: -40°C; Case/Package: 1212; Manufacturer Part Number: LQH3NPZ100MMEL
footprint FP-LQH3NPH_ME-MFG
pins: 1, 2

## CMP-08246-004344-1
designator C?, comment 2.2 uF
C1005X7S1A225K050BC; Manufacturer: TDK; Capacitance: 2.2uF; Dielectric: X7S; Dielectric Material: Ceramic; Voltage Rating: 10V; Tolerance: 10%; Mount: Surface Mount; Height: 0.5mm; Package Quantity: 1; Depth: 0.5mm; RoHS Compliant: Yes; Length: 1mm; Thickness: 0.022inch; Packaging: Tape and Reel; Case Code (Imperial): 0402; Resistor Type: Ceramic; Case/Package: 0402; Min Operating Temperature: -55°C; Series: C; Weight: 2.3E-05oz; Width: 0.02inch; Voltage Rating (DC): 10V; Case Code (Metric): 1005; Max Operating Temperature: 125°C; Termination: SMD/SMT; Lead Free: Lead Free; Manufacturer Part Number: C1005X7S1A225K050BC
footprint FP-C1005-050-0_15-0_1-MFG
footprint FP-C1005-050-0_15-0_1-IPC_C
footprint FP-C1005-050-0_15-0_1-IPC_B
footprint FP-C1005-050-0_15-0_1-IPC_A
pins: 1, 2

## CMP-09116-000032-1
designator U?, comment AD8338ACPZ-R7
IC OPAMP VGA 1 CIRCUIT 16LFCSP; Manufacturer: Analog Devices; Nominal Supply Current: 3-6mA; Max Supply Voltage: 5V; Number Of Channels: 1; Output Current Per Channel: 5mA; Max Junction Temp: +150°C; Min Supply Voltage: 3V; Bandwidth: 18MHz; Voltage Gain: 80dB; Mouser Description: Special Purpose Amplifiers Ultra Low Pwr 18MHz SGL CH VGA; Device Class L2: Linear ICs; Ipc Land Pattern Name: QFN50P300X300X75-16; Temperature Range Low: -40°C; Device Class L1: Integrated Circuits (ICs); RoHS: TRUE; Digikey Description: IC OPAMP VGA 1 CIRCUIT 16LFCSP; Category: IC; ComponentLink2URL: https://www.analog.com/media/en/technical-documentation/data-sheets/AD8338.pdf; Automotive: No; Height: 0.8mm; Manufacturer Part Number: AD8338ACPZ-R7; Octopart: https://octopart.com/ad8338acpz-r7-analog+devices-21054770; Temperature: -40°C to +85°C; ComponentLink2Description: Datasheet; Lead Free: Yes; Temperature Range High: +85°C; Package: CP-16-22; Device Class L3: Amplifiers - Op Amps
footprint FP-CP-16-22-IPC_C
footprint FP-CP-16-22-IPC_B
footprint FP-CP-16-22-IPC_A
pins: 1 INPR, 2 INPD, 3 INMD, 4 INMR, 5 COMM (power), 6 MODE (in), 7 GAIN (in), 8 DETO (out), 9 FBKM (in), 10 OUTM (out), 11 OUTP (out), 12 FBKP (in), 13 VAGC (power), 14 OFSN, 15 VBAT (power), 16 VREF (power), 17 EP (power)

## CMP-09141-000004-1
designator U?, comment LTC5507ES6#TRMPBF
IC RF DETECT 100KHZ-1GHZ TSOT23; Manufacturer: Analog Devices; Standoff Height: 0.01mm; Max Junction Temp: +125°C; Max Frequency: 1000MHz; Bandwidth: 999.9MHz; Temperature Range Low: -40°C; ComponentLink2URL: https://www.analog.com/media/en/technical-documentation/data-sheets/5507f.pdf; Automotive: No; Device Class L2: RF Semiconductors and Devices; Height: 1mm; RoHS: TRUE; Mouser Description: RF Detector 0.1MHz to 1000MHz 14dBm Automotive 6-Pin TSOT-23 T/R; Lead Free: Yes; Temperature Range High: +85°C; Device Class L3: unset; Category: IC; Octopart: https://octopart.com/ltc5507es6%23trmpbf-analog+devices-88320008; Digikey Description: IC RF DETECT 100KHZ-1GHZ TSOT23; Package: TSOT-23; Temperature: -40°C to +85°C; ComponentLink2Description: Datasheet; Device Class L1: Integrated Circuits (ICs); Manufacturer Part Number: LTC5507ES6#TRMPBF; Ipc Land Pattern Name: SOT95P280X91-6
footprint FP-LTC5507ES6#TRMPBF-MFG
footprint FP-LTC5507ES6#TRMPBF-IPC_C
footprint FP-LTC5507ES6#TRMPBF-IPC_B
footprint FP-LTC5507ES6#TRMPBF-IPC_A
pins: 1 ~{SHDN} (in), 2 GND (power), 3 VOUT, 4 VCC (power), 5 PCAP, 6 RFIN

## CMP-11605-000009-1
designator J?, comment DF40C-40DS-0.4V(51)
CONN RCPT 40POS SMD GOLD; Manufacturer: Hirose; Manufacturer: HIROSE ELECTRIC; Current Rating: 0.3A; Standoff Height: 0mm; Voltage Rating: 30V; Conn Gender: Female; Is Female: yes; Conn Orientation: Vertical; Pitch: 0.4mm; Number Of Contacts: 40; Manufacturer Part Number: DF40C-40DS-0.4V(51); Device Class L2: Board to Board Connectors; ComponentLink2URL: https://www.hirose.com/product/document?clcode=CL0684-4008-7-51&productname=DF40C-40DS-0.4V(51)&series=DF40&documenttype=SpecSheet&lang=en&documentid=0000427780; Contact Material: Gold,Nickel; Lead Free: Yes; Temperature: -35°C to +85°C; Number Of Rows: 2; Footprint Url: https://www.hirose.com/product/document?clcode=CL0684-4008-7-51&productname=DF40C-40DS-0.4V(51)&series=DF40&documenttype=2DDrawing&lang=en&documentid=0001001229; ComponentLink2Description: Datasheet; Category: Conn; Temperature Range High: +85°C; Device Class L1: Connectors; Package: 0; Digikey Description: CONN RCPT 40POS SMD GOLD; Device Class L3: unset; Height: 1.65mm; Octopart: https://octopart.com/df40c-40ds-0.4v%2851%29-hirose-19073526; RoHS: TRUE; Temperature Range Low: -35°C; Automotive: No
footprint FP-DF40C-40DS-0_4V_51-MFG
part A pins: 1, 3, 5, 7, 9, 11, 13, 15, 17, 19, 21, 23, 25, 27, 29, 31, 33, 35, 37, 39
part B pins: 2, 4, 6, 8, 10, 12, 14, 16, 18, 20, 22, 24, 26, 28, 30, 32, 34, 36, 38, 40

## CMP-12791-000024-1
designator D?, comment BAV99T-7-F
DIODE ARRAY GP 85V 75MA SOT523; Manufacturer: Diodes Inc.; Capacitance: 1.5pF; Value: 1.5pF; Standoff Height: 0mm; Peak Reverse Current: 2uA; Max Surge Forward Current: 0.5A; Max Junction Temp: +150°C; Device Class L1: Discrete Semiconductors; Automotive: No; Temperature: -65°C to +150°C; ComponentLink2Description: Datasheet; Package: SOT523; Manufacturer Part Number: BAV99T-7-F; Forward Current: 75mA; Max Repetitive Reverse Voltage: 85V; Device Class L3: Rectifier Diodes; Octopart: https://octopart.com/bav99t-7-f-diodes+inc.-326340; ComponentLink2URL: https://www.diodes.com/assets/Datasheets/ds30260.pdf; Lead Free: Yes; Digikey Description: DIODE ARRAY GP 85V 75MA SOT523; Reverse Voltage: 85V; Footprint Url: https://www.diodes.com/assets/Package-Files/SOT523.pdf; Category: Diode; RoHS: TRUE; Mouser Description: BAV99T Series 4 A 85 V 150 mW Surface Mount Fast Switching Diode - SOT-523; Device Class L2: Diodes; Height: 0.9mm; Temperature Range Low: -65°C; Temperature Range High: +150°C
footprint FP-SOT523-MFG
footprint FP-SOT523-IPC_C
footprint FP-SOT523-IPC_B
footprint FP-SOT523-IPC_A
pins: 1, 2, 3

## CMP-13261-002896-1
designator R?, comment 390k
RC1005F394CS; Manufacturer: Samsung Electro-Mechanics; Voltage Rating (DC): 50V; Tolerance: 1%; Max Power Dissipation: 63mW; Resistance: 390kR; Temperature Coefficient: 100ppm/°C; Lead Free: Lead Free; Case/Package: 0402; Radiation Hardening: No; Length: 0.039inch; Depth: 0.5mm; Composition: Thick Film; Number of Terminations: 2; Height: 0.016inch; Packaging: Tape and Reel; Case Code (Imperial): 0402; Width: 0.02inch; Features: Moisture Resistant; Contact Plating: Tin; Min Operating Temperature: -55°C; Max Operating Temperature: 155°C; Case Code (Metric): 1005; Military Standard: Not; Manufacturer Part Number: RC1005F394CS
footprint FP-RC1005-MFG
footprint FP-RC1005-IPC_A
footprint FP-RC1005-IPC_B
footprint FP-RC1005-IPC_C
pins: 1, 2

## CMP-26527-004787-1
designator R?, comment 47k
RMCF0201JT47K0; Manufacturer: Stackpole Electronics; Power Rating: 50mW; Resistance: 47kR; Tolerance: 5%; Temperature Coefficient: 200ppm/°C; Length: 0.024inch; RoHS Compliant: Yes; Max Operating Temperature: 125°C; Width: 0.012inch; Case Code (Metric): 0603; Height: 0.009inch; Case Code (Imperial): 0201; Mount: Surface Mount; Case/Package: 0201; Radiation Hardening: No; Number of Terminations: 2; Min Operating Temperature: -55°C; Series: RMCF; Contact Plating: Tin; Package Quantity: 10000; Packaging: Tape and Reel; Max Power Dissipation: 50mW; Resistor Type: Thick Film; Manufacturer Part Number: RMCF0201JT47K0
footprint FP-RMCF0201-MFG
footprint FP-RMCF0201-IPC_A
footprint FP-RMCF0201-IPC_B
footprint FP-RMCF0201-IPC_C
pins: 1, 2

## CMP-27762-000002-3
designator Y?, comment ABS05-32.768KHZ-9-T
CRYSTAL 32.7680KHZ 9PF SMD; Manufacturer: Abracon; Tolerance: 20ppm; Series Resistance: 90kR; Series: ABS05; Frequency: 32.768kHz; Radiation Hardening: No; Min Operating Temperature: -40°C; RoHS Compliant: Yes; Termination: SMD/SMT; Max Operating Temperature: 85°C; Depth: 1mm; Load Capacitance: 9pF; Number of Pins: 2; Frequency Tolerance: 20ppm; Package Quantity: 3000; Operating Frequency: 32.768 kHz; Case/Package: CSMD; Height: 0.5mm; Length: 1.6mm; REACH SVHC: No SVHC; Packaging: Tape and Reel; ESR (Equivalent Series Resistance): 90kR; Mount: Surface Mount; Lead Free: Lead Free; Width: 1mm; Manufacturer Part Number: ABS05-32.768KHZ-9-T
footprint FP-ABS05-MFG
pins: 1, 2

## CMP-44529-000045-1
designator D?, comment Forward Voltage: 2.65V  Color: Green  (hidden comment: APHD1608LZGCK)
LED GREEN CLEAR 1608 SMD; Manufacturer: Kingbright; Test Current: 2mA; Dominant Wavelength: 525nm; Lens Color: Colorless; Luminous Intensity: 180mcd; Viewing Angle: 100°; Lens Size: 0.7mm; Lens Style: Round; Mount: Surface Mount; Packaging: Tape and Reel; Lens Transparency: Clear; Height: 0.75mm; Case/Package: 0603; Length: 1.6mm; Case Code (Metric): 1608; Width: 0.8mm; Case Code (Imperial): 0603; Manufacturer Part Number: APHD1608LZGCK
footprint FP-APHD1608LZGCK-MFG
pins: 1 C, 2 A

## DF40HC(3.0)-50DS-0.4V(51)
designator J?
50 Position 0.4mm Pitch Dual Row Vertical Surface Mount (SMT) Pin Socket, 3.0mm Stacking Height; Mfr_Name: Hirose; Copyright: Copyright (C) 2023 Ultra Librarian. All rights reserved.; Manufacturer_Part_Number: DF40HC(3.0)-50DS-0.4V(51); RefDes: RefDes; Type: DEV
footprint DF40HC3050DS04V51
pins: 1, 2, 3, 4, 5, 6, 7, 8, 9, 10, 11, 12, 13, 14, 15, 16, 17, 18, 19, 20, 21, 22, 23, 24, 25, 26, 27, 28, 29, 30, 31, 32, 33, 34, 35, 36, 37, 38, 39, 40, 41, 42, 43, 44, 45, 46, 47, 48, 49, 50

## DF52-16S-0.8H(21)
designator J?
No Description Available; Mfr_Name: Hirose; Copyright: Copyright (C) 2022 Ultra Librarian. All rights reserved.; Manufacturer_Part_Number: DF52-16S-0.8H(21); RefDes: RefDes; Type: DEV
footprint CONN_DF52-16S-0.8H(21)_HIR
pins: 1, 2, 3, 4, 5, 6, 7, 8, 9, 10, 11, 12, 13, 14, 15, 16

## ERJ-2RKF1004X
designator R?, comment 1MΩ
ERJ-2RKF1004X; Manufacturer_Name: Panasonic; Datasheet Link: https://industrial.panasonic.com/cdbs/www-data/pdf/RDA0000/AOA0000C86.pdf; Height: 0.4mm; Manufacturer_Part_Number: ERJ-2RKF1004X; Mouser Part Number: 667-ERJ-2RKF1004X; Mouser Price/Stock: https://www.mouser.co.uk/ProductDetail/Panasonic/ERJ-2RKF1004X?qs=H7k1u0Mp9JTG%252BclS6LVdqw%3D%3D; Arrow Part Number: ERJ-2RKF1004X; Arrow Price/Stock: https://www.arrow.com/en/products/erj-2rkf1004x/panasonic?region=nac
footprint ERJ2RKD1004X
pins: 1, 2

## ERJ-2RKF4122X
designator R?, comment 41.2 kΩ
ERJ-2RKF4122X; Manufacturer_Name: Panasonic; Datasheet Link: https://industrial.panasonic.com/cdbs/www-data/pdf/RDA0000/AOA0000C86.pdf; Height: 0.4mm; Manufacturer_Part_Number: ERJ-2RKF4122X; Mouser Part Number: 667-ERJ-2RKF4122X; Mouser Price/Stock: https://www.mouser.co.uk/ProductDetail/Panasonic/ERJ-2RKF4122X?qs=YMBIwoNQYdUCaGOKDy4kUA%3D%3D; Arrow Part Number: ERJ-2RKF4122X; Arrow Price/Stock: https://www.arrow.com/en/products/erj-2rkf4122x/panasonic?utm_currency=USD&region=nac
footprint ERJ2RKD1004X
pins: 1, 2

## ERJ-2RKF4322X
designator R?, comment 43.2 kΩ
ERJ-2RKF4322X; Manufacturer_Name: Panasonic; Datasheet Link: https://industrial.panasonic.com/cdbs/www-data/pdf/RDA0000/AOA0000C86.pdf; Height: 0.4mm; Manufacturer_Part_Number: ERJ-2RKF4322X; Mouser Part Number: 667-ERJ-2RKF4322X; Mouser Price/Stock: http://www.mouser.com/Search/ProductDetail.aspx?qs=YMBIwoNQYdULE5GECeB%2fdA%3d%3d
footprint ERJ2RKD1004X
pins: 1, 2

## ERJ-PA3J302V
designator R?, comment 3k 1/3W
ERJ-PA3J302V; Manufacturer_Name: Panasonic; Datasheet Link: https://industrial.panasonic.com/cdbs/www-data/pdf/RDO0000/AOA0000C331.pdf; Height: 0.55mm; Manufacturer_Part_Number: ERJ-PA3J302V; Mouser Part Number: 667-ERJ-PA3J302V; Mouser Price/Stock: https://www.mouser.co.uk/ProductDetail/Panasonic/ERJ-PA3J302V?qs=BzJM0faLVqU1ZJAPCjWnWA%3D%3D
footprint ERJP03_PA3_(0603)
pins: 1, 2

## ERJ-PA3J302V_1
designator R??, comment Res: 3k 1/3W  (hidden comment: ERJ-PA3J302V)
Resistor; Manufacturer_Name: Panasonic; Datasheet Link: https://industrial.panasonic.com/cdbs/www-data/pdf/RDO0000/AOA0000C331.pdf; Height: 0.55mm; Manufacturer_Part_Number: ERJ-PA3J302V; Mouser Part Number: 667-ERJ-PA3J302V; Mouser Price/Stock: https://www.mouser.co.uk/ProductDetail/Panasonic/ERJ-PA3J302V?qs=BzJM0faLVqU1ZJAPCjWnWA%3D%3D
footprint ERJP03_PA3_(0603)
pins: 1, 2

## FY0800018
designator X?  Frequency: 8MHz
Crystal 8MHz ±30ppm (Tol) ±30ppm (Stability) 18pF FUND 100Ohm 4-Pin SMD T/R; Manufacturer: Diodes; ESR (Equivalent Series Resistance): 100R; Supplier 1: Digi-Key; Manufacturer Part Number: FY0800018; RoHS: Yes; Category: Crystals; Stock 1: 10869; Pricing 1: 1=0.80000, 10=0.70800, 50=0.66220, 100=0.58520, 500=0.55440 (USD); Mount: Surface Mount; Case/Package: SMD/SMT; Min Operating Temperature: -40°C; Max Operating Temperature: 85°C; Packaging: Cut Tape; Frequency Stability: 30ppm; Frequency Tolerance: 30ppm; Load Capacitance: 18pF; Length: 0.197inch; Width: 0.126inch; Height: 0.043inch; ComponentLink1URL: http://media.digikey.com/pdf/Data%20Sheets/Pericom%20PDFs/FY0800018_VerB.pdf?src-supplier=Digi-Key; ComponentLink1Description: http://media.digikey.com/pdf/Data%20Sheets/Pericom%20PDFs/FY0800018_VerB.pdf?src-supplier=Digi-Key; Supplier Part Number 1: FY0800018CT-ND
footprint XTAL_ECS-80-18-30B-AGN-TR
footprint XTAL_ECS-80-18-30B-AGN-TR
pins: 1 IN/OUT (io), 2 GND (power), 3 OUT/IN (io), 4 GND (power)